# Altium footprint library YaoPCB.PCBLIB: 415 footprints (part 17 of 26)
Each footprint in its own frame and in the unit in brackets; x right, y up, seen from the top. Pads: shape width x height; smd on the part's side, far side on the other; paste and mask are expansions set on the pad; w line width, h text height; cw(c..) or ccw(c..) is an arc to the next point about the centre after c.
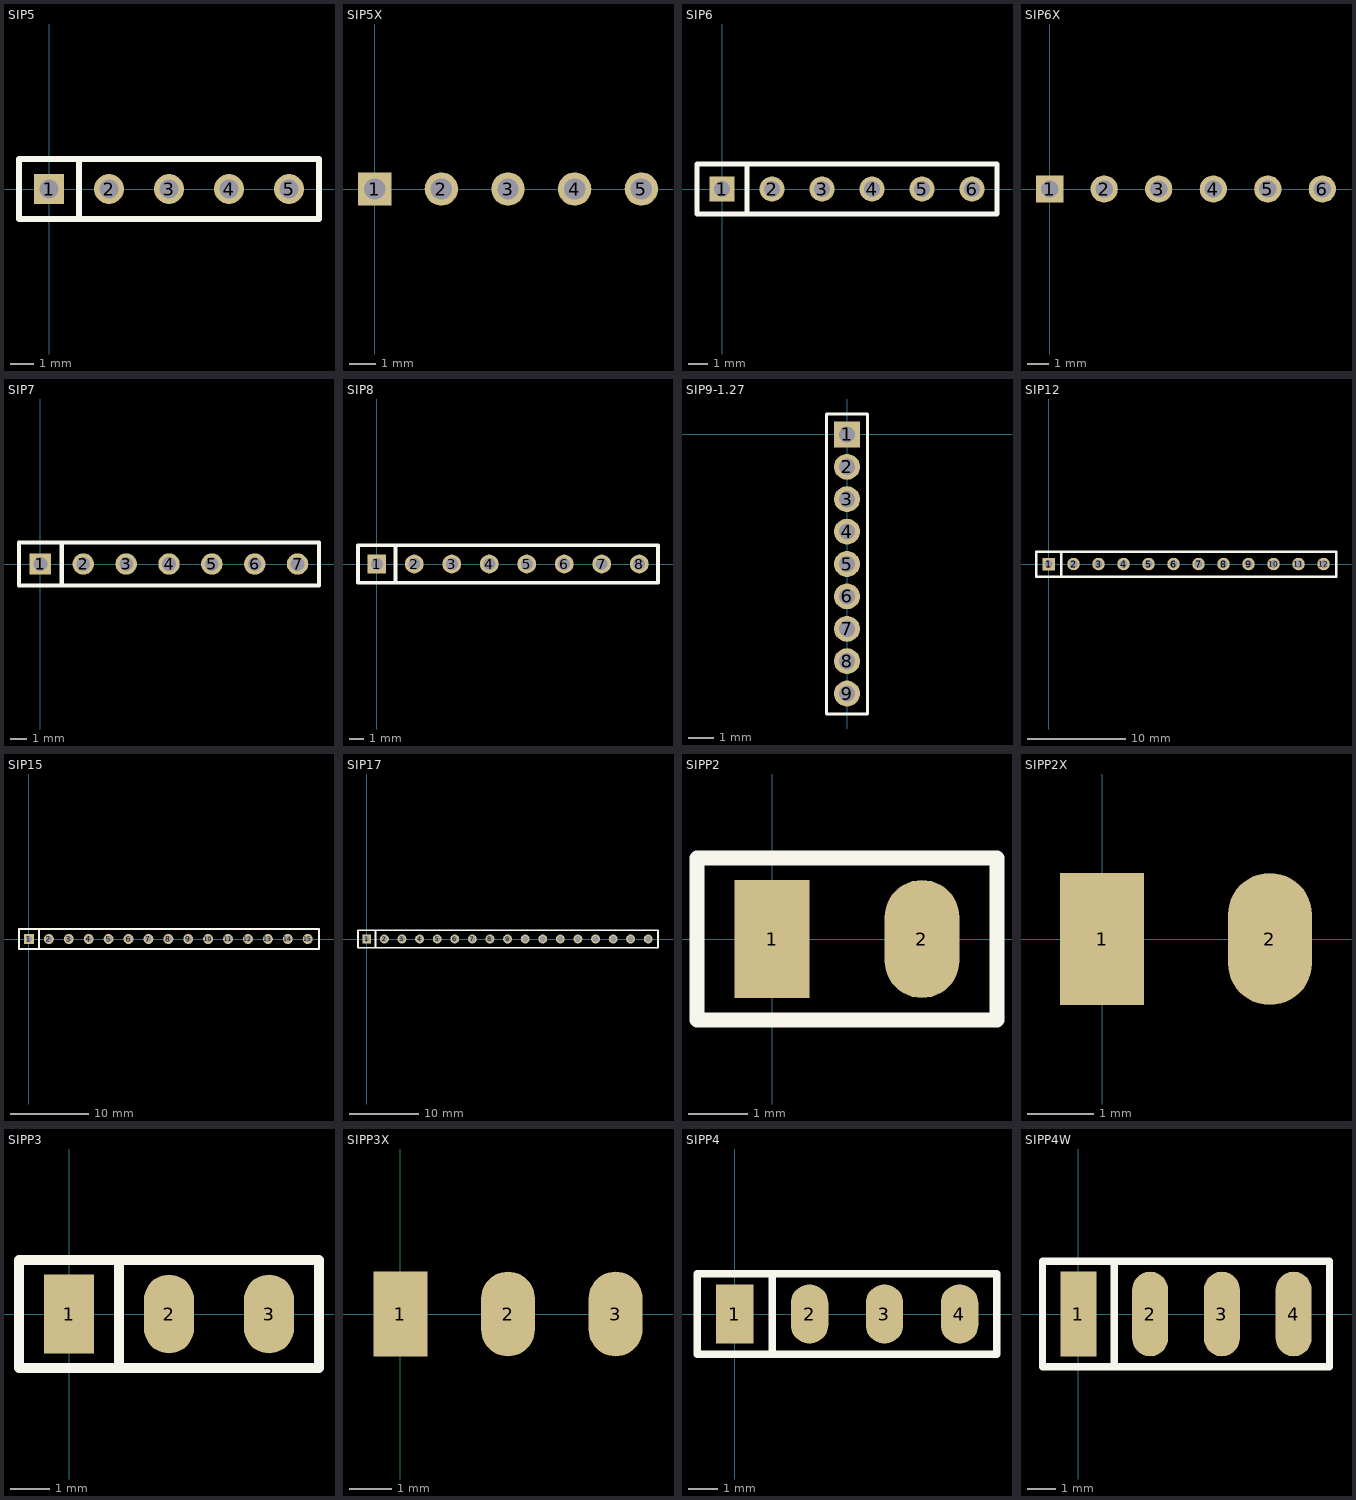
[diagram p16: the footprints below, top view; thin cyan lines are the x and y axes]

## SIP5 [mil]
pads (5):
  rect 50x50 hole 32: 1(0,0)
  round 50 hole 32: 2(100,0) 3(200,0) 4(300,0) 5(400,0)
TopOverlay:
  lines w10: 50,-50 50,50 ; -50,-50 450,-50 450,50 -50,50 -50,-50

## SIP5X [mil]
pads (5):
  rect 50x50 hole 32: 1(0,0)
  round 50 hole 32: 2(100,0) 3(200,0) 4(300,0) 5(400,0)

## SIP6 [mil]
pads (6):
  rect 50x50 hole 32: 1(0,0)
  round 50 hole 32: 2(100,0) 3(200,0) 4(300,0) 5(400,0) 6(500,0)
TopOverlay:
  lines w10: 50,-50 50,50 ; -50,-50 -50,50 550,50 550,-50 -50,-50

## SIP6X [mil]
pads (6):
  rect 50x50 hole 32: 1(0,0)
  round 50 hole 32: 2(100,0) 3(200,0) 4(300,0) 5(400,0) 6(500,0)

## SIP7 [mil]
pads (7):
  rect 50x50 hole 32: 1(0,0)
  round 50 hole 32: 2(100,0) 3(200,0) 4(300,0) 5(400,0) 6(500,0) 7(600,0)
TopOverlay:
  lines w10: 50,-50 50,50 ; -50,-50 -50,50 650,50 650,-50 -50,-50

## SIP8 [mil]
pads (8):
  rect 50x50 hole 32: 1(0,0)
  round 50 hole 32: 2(100,0) 3(200,0) 4(300,0) 5(400,0) 6(500,0) 7(600,0) 8(700,0)
TopOverlay:
  lines w10: 50,-50 50,50 ; -50,-50 -50,50 750,50 750,-50 -50,-50

## SIP9-1.27 [mil]
pads (9):
  rect 40x40 hole 25: 1(0,0)
  round 40 hole 25: 2(0,-50) 3(0,-100) 4(0,-150) 5(0,-200) 6(0,-250) 7(0,-300) 8(0,-350) 9(0,-400)
TopOverlay:
  lines w5: -31.5,-431.5 -31.5,31.5 31.5,31.5 31.5,-431.5 -31.5,-431.5

## SIP12 [mil]
pads (12):
  rect 50x50 hole 32: 1(0,0)
  round 50 hole 32: 2(100,0) 3(200,0) 4(300,0) 5(400,0) 6(500,0) 7(600,0) 8(700,0) 9(800,0) 10(900,0) 11(1000,0) 12(1100,0)
TopOverlay:
  lines w10: 50,-50 50,50 ; -50,-50 1150,-50 1150,50 -50,50 -50,-50

## SIP15 [mil]
pads (15):
  rect 50x50 hole 32: 1(0,0)
  round 50 hole 32: 2(100,0) 3(200,0) 4(300,0) 5(400,0) 6(500,0) 7(600,0) 8(700,0) 9(800,0) 10(900,0) 11(1000,0) 12(1100,0) 13(1200,0) 14(1300,0) 15(1400,0)
TopOverlay:
  lines w10: 50,-50 50,50 ; -50,-50 1456.69,-50 1456.69,50 -50,50 -50,-50

## SIP17 [mil]
pads (17):
  rect 50x50 hole 32: 1(0,0)
  round 50 hole 32: 2(100,0) 3(200,0) 4(300,0) 5(400,0) 6(500,0) 7(600,0) 8(700,0) 9(800,0) 10(900,0) 11(1000,0) 12(1100,0) 13(1200,0) 14(1300,0) 15(1400,0) 16(1499.21,0) 17(1599.21,0)
TopOverlay:
  lines w10: 50,-50 50,50 ; -50,-50 -50,50 1655.12,50 1655.12,-50 -50,-50

## SIPP2 [mm]
pads (2):
  rect 1.27x2 smd: 1(0,0)
  oval 1.27x2 smd: 2(2.54,0)
TopOverlay:
  lines w0.254: -1.27,-1.37 3.81,-1.37 3.81,1.37 -1.27,1.37 -1.27,-1.37

## SIPP2X [mm]
pads (2):
  rect 1.27x2 smd: 1(0,0)
  oval 1.27x2 smd: 2(2.54,0)

## SIPP3 [mm]
pads (3):
  rect 1.27x2 smd: 1(0,0)
  oval 1.27x2 smd: 2(2.54,0) 3(5.08,0)
TopOverlay:
  lines w0.254: 1.27,-1.37 1.27,1.37 ; -1.27,-1.37 6.35,-1.37 6.35,1.37 -1.27,1.37 -1.27,-1.37

## SIPP3X [mm]
pads (3):
  rect 1.27x2 smd: 1(0,0)
  oval 1.27x2 smd: 2(2.54,0) 3(5.08,0)

## SIPP4 [mm]
pads (4):
  rect 1.27x2 smd: 1(0,0)
  oval 1.27x2 smd: 2(2.54,0) 3(5.08,0) 4(7.62,0)
TopOverlay:
  lines w0.254: 1.27,-1.37 1.27,1.37 ; -1.27,-1.37 -1.27,1.37 8.89,1.37 8.89,-1.37 -1.27,-1.37

## SIPP4W [mm]
pads (4):
  rect 1.27x3 smd: 1(0,0)
  oval 1.27x3 smd: 2(2.54,0) 3(5.08,0) 4(7.62,0)
TopOverlay:
  lines w0.254: 1.27,-1.87 1.27,1.87 ; -1.27,-1.87 8.89,-1.87 8.89,1.87 -1.27,1.87 -1.27,-1.87